# Altium footprint library C42459160.PcbLib: 1 footprints
Each footprint in its own frame and in the unit in brackets; x right, y up, seen from the top. Pads: shape width x height; smd on the part's side, far side on the other; paste and mask are expansions set on the pad; w line width, h text height; cw(c..) or ccw(c..) is an arc to the next point about the centre after c.
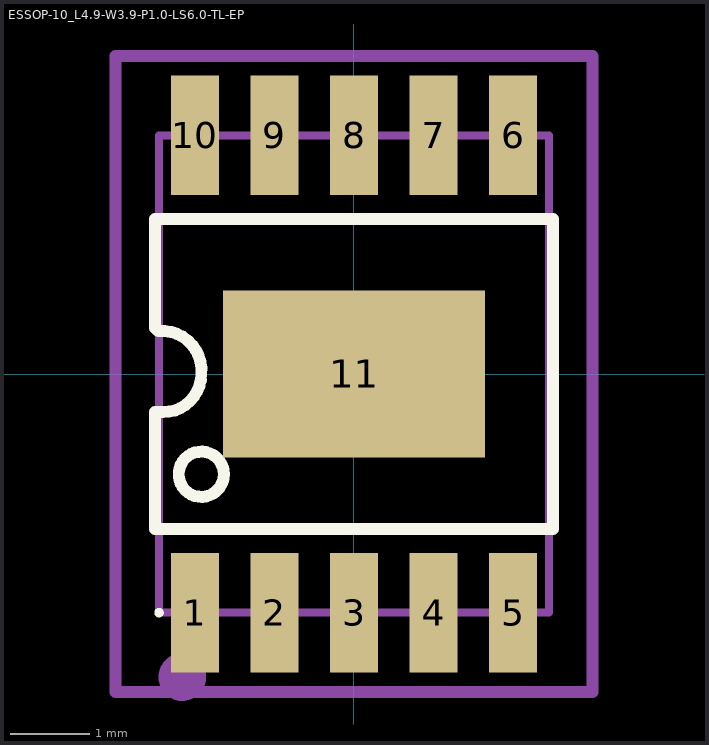
[diagram p0: the footprint, top view; thin cyan lines are the x and y axes]

## ESSOP-10_L4.9-W3.9-P1.0-LS6.0-TL-EP [mm] "Power Receiver Controller 1C 140W ESSOP-10 Power Management - Specialized RoHS"
pads (11):
  rect 0.6x1.5 smd: 1(-2,-3) 2(-1,-3) 3(0,-3) 4(1,-3) 5(2,-3) 6(2,3) 7(1,3) 8(0,3) 9(-1,3) 10(-2,3)
  rect 3.3x2.1 smd: 11(0,0)
Top Overlay:
  circle w0.06: c-2.45,-3 r0.03
  circle w0.15: c-1.92,-1.26 r0.284
  lines w0.15: -2.5,-1.95 -2.5,-0.48 -2.4,-0.48 ccw(c-2.4,0) -1.92,0 ccw(c-2.416,0.044) -2.46,0.54 -2.5,0.58 -2.5,0.82 -2.5,1.95 2.5,1.95 2.5,-1.95 -2.5,-1.95
Mechanical 11:
  circle w0.3: c-2.159,-3.81 r0.15
Mechanical 13:
  lines w0.1: -2.45,-3 2.45,-3 2.45,3 -2.45,3 -2.45,-3
Mechanical 15:
  lines w0.15: -0.5,0 0.5,0 ; 0,-0.5 0,0.5 ; -3,-4 3,-4 3,4 -3,4 -3,-4
3D body "ESSOP-10_L4.9-W3.9-P1.0-LS6.0-TL-EP.step": height 0.73, standoff -0.81, extent -2.45,-3 2.45,3